# Altium footprint library PcblibPH.PcbLib: 18 footprints (part 1 of 2)
Each footprint in its own frame and in the unit in brackets; x right, y up, seen from the top. Pads: shape width x height; smd on the part's side, far side on the other; paste and mask are expansions set on the pad; w line width, h text height; cw(c..) or ccw(c..) is an arc to the next point about the centre after c.
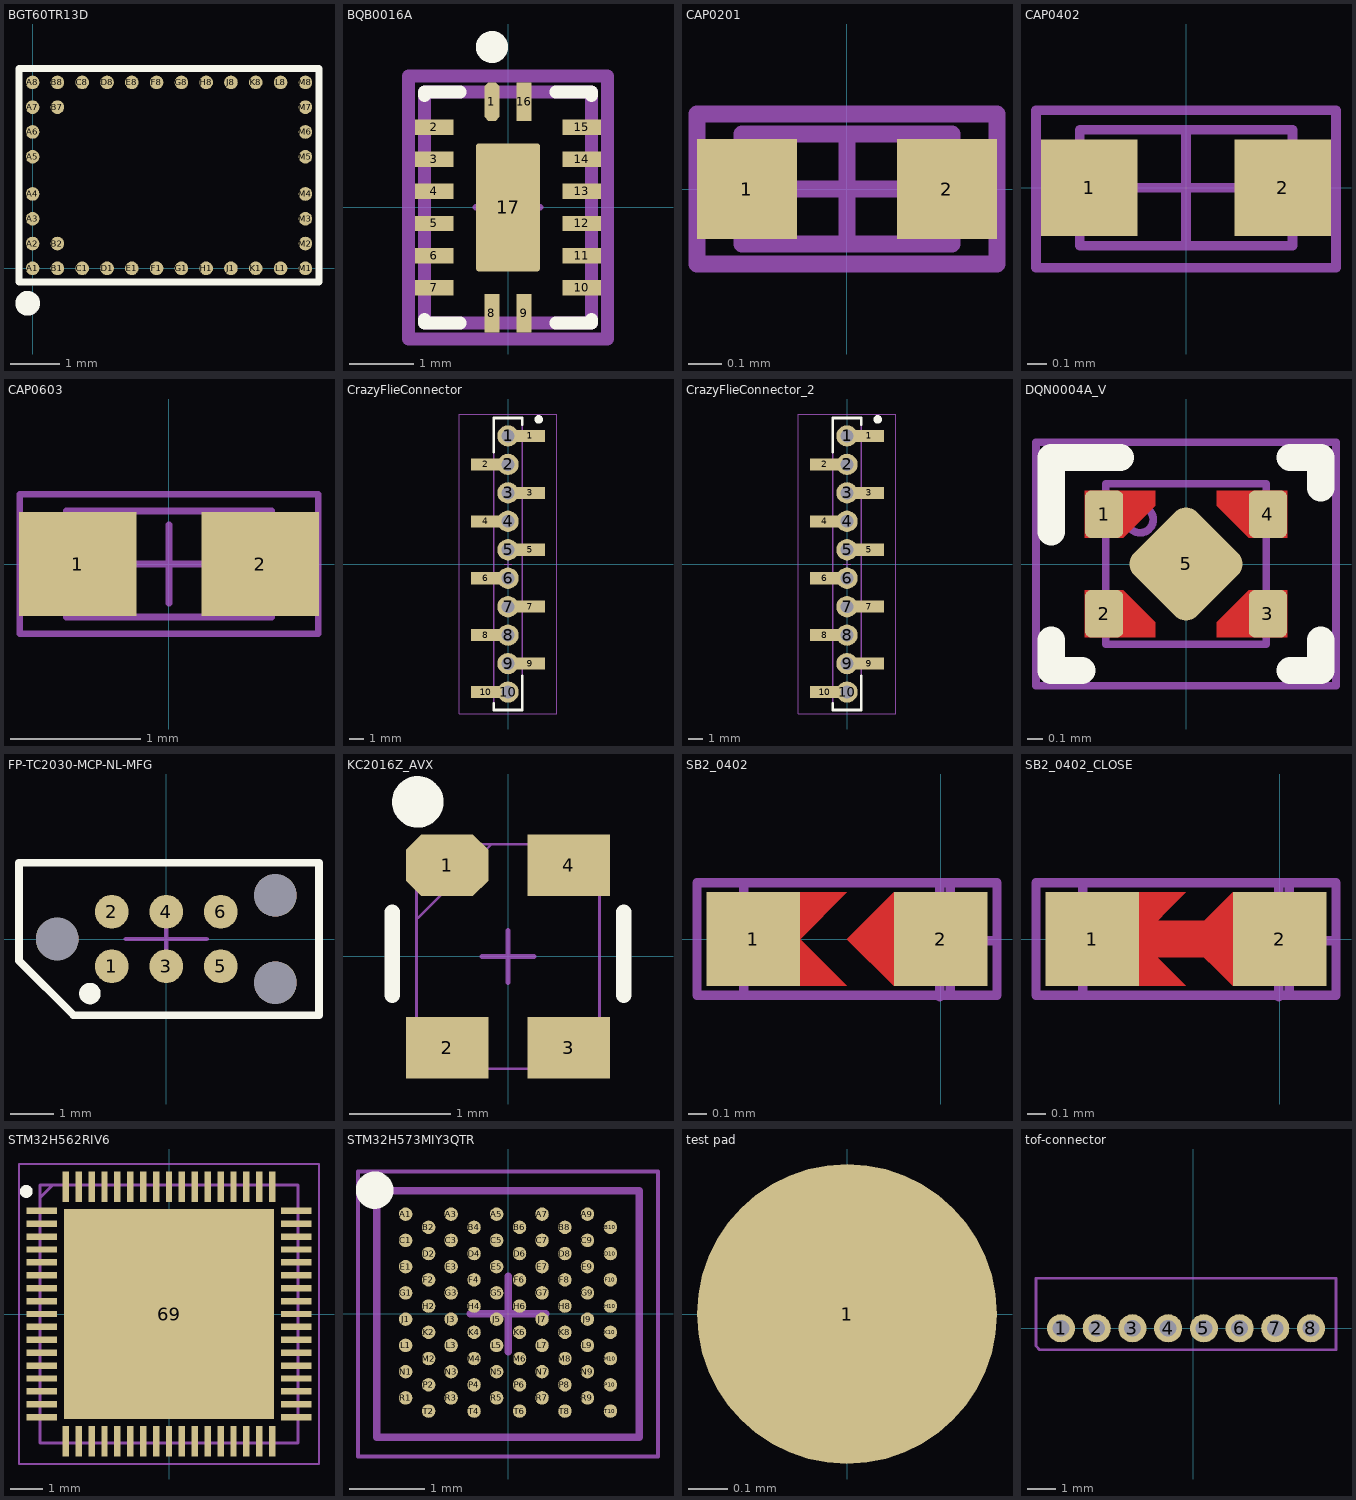
[diagram p0: the footprints below, top view; thin cyan lines are the x and y axes]

## BGT60TR13D [mm] "20190318"
height 0.8
pads (38):
  round 0.275 smd: A1(0,0) A2(0,0.5) A3(0,1) A4(0,1.5) A5(0,2.25) A6(0,2.75) A7(0,3.25) A8(0,3.75) B1(0.5,0) B2(0.5,0.5) B7(0.5,3.25) B8(0.5,3.75) C1(1,0) C8(1,3.75) D1(1.5,0) D8(1.5,3.75) E1(2,0) E8(2,3.75) F1(2.5,0) F8(2.5,3.75) G1(3,0) G8(3,3.75) H1(3.5,0) H8(3.5,3.75) J1(4,0) J8(4,3.75) K1(4.5,0) K8(4.5,3.75) L1(5,0) L8(5,3.75) M1(5.5,0) M2(5.5,0.5) M3(5.5,1) M4(5.5,1.5) M5(5.5,2.25) M6(5.5,2.75) M7(5.5,3.25) M8(5.5,3.75)
Top Overlay:
  circle w0.25: c-0.1,-0.705 r0.125
  lines w0.15: -0.275,-0.275 5.775,-0.275 5.775,4.03 -0.275,4.03 -0.275,-0.275
3D body: height 0.8, standoff 0.1, extent -0.275,-0.275 5.775,4.025

## BQB0016A [mm]
pads (17):
  oct 0.24x0.6 smd paste+0 mask+0: 1(-0.25,1.65)
  rect 0.6x0.24 smd paste+0 mask+0: 2(-1.15,1.25) 3(-1.15,0.75) 4(-1.15,0.25) 5(-1.15,-0.25) 6(-1.15,-0.75) 7(-1.15,-1.25) 10(1.15,-1.25) 11(1.15,-0.75) 12(1.15,-0.25) 13(1.15,0.25) 14(1.15,0.75) 15(1.15,1.25)
  rect 0.24x0.6 smd paste+0 mask+0: 8(-0.25,-1.65) 9(0.25,-1.65) 16(0.25,1.65)
  rrect10% 1x2 smd paste-1000 mask+0: 17(0,0)
Top Overlay:
  circle w0.25: c-0.25,2.5 r0.125
  lines w0.2: -1.3,-1.745 -1.3,-1.8 -0.745,-1.8 ; -1.3,1.745 -1.3,1.8 -0.745,1.8 ; 0.745,-1.8 1.3,-1.8 1.3,-1.745 ; 0.745,1.8 1.3,1.8 1.3,1.745
Top Paste:
  region: -0.475,0.845 -0.475,0.855 -0.467,0.873 -0.453,0.887 -0.435,0.895 -0.425,0.895 0.425,0.895 0.435,0.895 0.453,0.887 0.467,0.873 0.475,0.855 0.475,0.845 0.475,-0.845 0.475,-0.855 0.467,-0.873 0.453,-0.887 0.435,-0.895 0.425,-0.895 -0.425,-0.895 -0.435,-0.895 -0.453,-0.887 -0.467,-0.873 -0.475,-0.855 -0.475,-0.845
Top Courtyard:
  lines w0.2: -1.55,-2.05 1.55,-2.05 1.55,2.05 -1.55,2.05 -1.55,-2.05
Top Component Center:
  lines w0.1: -0.5,0 0.5,0 ; 0,-0.5 0,0.5
Top 3D Body:
  lines w0.2: -1.3,-1.8 1.3,-1.8 1.3,1.8 -1.3,1.8 -1.3,-1.8
Top Assembly:
  lines w0.2: -1.55,-2.05 1.55,-2.05 1.55,2.05 -1.55,2.05 -1.55,-2.05
3D body "IC_Texas_Instruments_SN74AXC4T774BQB_eec.STEP": height 0.25, standoff 0, extent -1.55,-2.05 1.55,2.05

## CAP0201 [mm] "Chip Capacitor, 2-Leads, Body 0.60x0.30mm, IPC High Density"
height 0.39
pads (2):
  rect 0.3x0.3 smd: 1(-0.3,0) 2(0.3,0)
Top Courtyard:
  lines w0.05: -0.45,-0.225 -0.45,0.225 0.45,0.225 0.45,-0.225 -0.45,-0.225
Top Assembly:
  lines w0.05: -0.165,0 0.165,0 ; 0,-0.165 0,0.165 ; -0.315,-0.165 -0.315,0.165 0.315,0.165 0.315,-0.165 -0.315,-0.165
3D body "CAPC0603X04L.step": height 0.39, standoff 0, extent -0.315,-0.165 0.315,0.165

## CAP0402 [mm] "Chip Capacitor, Body 1.0x0.5mm, Height 0.7mm, IPC High Density"
height 0.7
pads (2):
  rect 0.5x0.5 smd: 1(-0.5,0) 2(0.5,0)
Top Courtyard:
  lines w0.05: -0.775,-0.413 0.775,-0.413 0.775,0.4 -0.775,0.4 -0.775,-0.413
Top Assembly:
  lines w0.05: -0.3,0 0.3,0 ; 0,-0.3 0,0.3 ; -0.55,-0.3 -0.55,0.3 0.55,0.3 0.55,-0.3 -0.55,-0.3
3D body "C_0402.STEP": height 0.52, standoff 0.01, extent -0.508,-0.254 0.508,0.254

## CAP0603 [mm]
pads (2):
  rect 0.9x0.8 smd: 1(-0.7,0) 2(0.7,0)
Top Courtyard:
  lines w0.05: -1.144,-0.533 -1.144,0.533 1.143,0.533 1.143,-0.533 -1.144,-0.533
Top Assembly:
  lines w0.05: -0.305,0 0.295,0 ; 0,-0.3 0,0.3 ; -0.787,-0.406 0.787,-0.406 0.787,0.406 -0.787,0.406 -0.787,-0.406
3D body "C_0603.STEP": height 0.81, standoff 0.01, extent -0.8,-0.4 0.8,0.4

## CrazyFlieConnector [mm]
height 10
pads (20):
  round 1.5 hole 0.9: 1(0,9) 2(0,7) 3(0,5) 4(0,3) 5(0,1) 6(0,-1) 7(0,-3) 8(0,-5) 9(0,-7) 10(0,-9)
  rect 2.1x0.85 smd: 1(1.55,9) 2(-1.55,7) 3(1.55,5) 4(-1.55,3) 5(1.55,1) 6(-1.55,-1) 7(1.55,-3) 8(-1.55,-5) 9(1.55,-7) 10(-1.55,-9)
Top Overlay:
  circle w0.3: c2.159,10.16 r0.15
  lines w0.2: -1,-9.8 -1,-10.25 1,-10.25 1,-7.874 ; -1,7.874 -1,10.25 1,10.25 1,9.8
Top Courtyard:
  lines w0.05: -0.254,0 0.254,0 ; 0,-0.254 0,0.254 ; -3.429,-10.541 -3.429,10.541 3.429,10.541 3.429,-10.541 -3.429,-10.541
Mechanical 12:
  lines w0.1: -1,-10.25 1,-10.25 1,10.25 -1,10.25 -1,-10.25

## CrazyFlieConnector_2 [mm]
height 10
pads (20):
  round 1.5 hole 0.9: 1(0,9) 2(0,7) 3(0,5) 4(0,3) 5(0,1) 6(0,-1) 7(0,-3) 8(0,-5) 9(0,-7) 10(0,-9)
  rect 2.1x0.85 smd: 1(1.55,9) 2(-1.55,7) 3(1.55,5) 4(-1.55,3) 5(1.55,1) 6(-1.55,-1) 7(1.55,-3) 8(-1.55,-5) 9(1.55,-7) 10(-1.55,-9)
Top Overlay:
  circle w0.3: c2.159,10.16 r0.15
  lines w0.2: -1,-9.8 -1,-10.25 1,-10.25 1,-7.874 ; -1,7.874 -1,10.25 1,10.25 1,9.8
Top Courtyard:
  lines w0.05: -0.254,0 0.254,0 ; 0,-0.254 0,0.254 ; -3.429,-10.541 -3.429,10.541 3.429,10.541 3.429,-10.541 -3.429,-10.541
Mechanical 12:
  lines w0.1: -1,-10.25 1,-10.25 1,10.25 -1,10.25 -1,-10.25
3D body "1X10_2MM_SMD.SLDPRT": height 5.09, standoff 0.06, extent -1.842,-10.34 1.918,10.16

## DQN0004A_V [mm] "SON, Body 1.05x1.05mm, Pitch 0.65mm"
height 0.4
pads (5):
  rrect32% 0.25x0.31 smd paste-1 mask-0.31: 1(-0.535,0.325) 2(-0.535,-0.325) 3(0.535,-0.325) 4(0.535,0.325)
  rrect34% 0.58x0.58 smd rot 45 paste-0.065 mask-0.05: 5(0,0)
Top Layer:
  region: -0.66,0.48 -0.2,0.48 -0.2,0.379 -0.409,0.17 -0.66,0.17
  region: 0.66,0.48 0.2,0.48 0.2,0.379 0.409,0.17 0.66,0.17
  region: 0.66,-0.48 0.2,-0.48 0.2,-0.379 0.409,-0.17 0.66,-0.17
  region: -0.66,-0.48 -0.2,-0.48 -0.2,-0.379 -0.409,-0.17 -0.66,-0.17
Top Overlay:
  lines w0.178: -0.88,-0.496 -0.88,-0.696 -0.68,-0.696 ; -0.88,0.21 -0.88,0.696 -0.43,0.696 ; 0.68,-0.696 0.88,-0.696 0.88,-0.496 ; 0.68,0.696 0.88,0.696 0.88,0.496
Top Paste:
  region: -0.65,-0.43 -0.25,-0.43 -0.25,-0.4 -0.43,-0.22 -0.65,-0.22
  region: 0.65,-0.43 0.25,-0.43 0.25,-0.4 0.43,-0.22 0.65,-0.22
  region: 0.65,0.43 0.25,0.43 0.25,0.4 0.43,0.22 0.65,0.22
  region: -0.65,0.43 -0.25,0.43 -0.25,0.4 -0.43,0.22 -0.65,0.22
Mechanical 1:
  text ".Designator" at -0.43,-0.14 h0.2
Top 3D Body:
  circle w0.05: c-0.3,0.29 r0.086
  lines w0.05: -0.525,-0.525 -0.525,0.525 0.525,0.525 0.525,-0.525 -0.525,-0.525
Mechanical 15:
  lines w0.05: -0.98,-0.796 -0.98,0.796 0.98,0.796 0.98,-0.796 -0.98,-0.796
  lines w0.1: -0.25,0 0.25,0 ; 0,-0.25 0,0.25
3D body: height 0.42, standoff 0.2, extent -0.386,0.204 -0.214,0.376
3D body: height 0.4, standoff 0, extent -0.525,-0.525 0.525,0.525

## FP-TC2030-MCP-NL-MFG [mil]
pads (9):
  round 30.98 smd paste-39370.1 mask+0: 1(-50,-25) 2(-50,25) 3(0,-25) 4(0,25) 5(50,-25) 6(50,25)
  round 39.02 hole 39.02 unplated paste-99999 mask+0: ""(-100,0) ""(100,-40) ""(100,40)
Top Overlay:
  circle w9.84: c-70,-50 r4.92
  lines w7: -135,-20 -85,-70 140,-70 140,70 -135,70 -135,-20
Top Component Center:
  lines w3.94: -37.18,0 37.18,0 ; 0,-37.18 0,37.18

## KC2016Z_AVX [mm]
height 0.8
pads (4):
  oct 0.813x0.61 smd paste-0.305 mask+0: 1(-0.6,0.9)
  rect 0.813x0.61 smd paste-0.305 mask+0: 2(-0.6,-0.9) 3(0.6,-0.9) 4(0.6,0.9)
Top Overlay:
  circle w0.254: c-0.889,1.524 r0.127
  lines w0.152: -1.143,-0.381 -1.143,0.439 ; 1.143,-0.381 1.143,0.439
Top Assembly:
  lines w0.025: -0.889,0.381 -0.165,1.105 ; -0.902,-1.105 -0.902,1.105 0.902,1.105 0.902,-1.105 -0.902,-1.105
  lines w0.05: -0.254,0 0.254,0 ; 0,-0.254 0,0.254
3D body "KC2016Z_AVX.step": height 0.81, standoff 0, extent -1.006,-1.156 1.006,1.156

## SB2_0402 [mm]
pads (2):
  rect 0.5x0.5 smd: 1(-1,0) 2(0,0)
Top Layer:
  region: -0.75,0 -0.5,0.25 -0.775,0.25 -0.775,-0.25 -0.5,-0.25
  region: -0.25,-0.25 -0.5,0 -0.25,0.25
Top Solder:
  region: -0.325,-0.35 -0.675,-0.35 -0.675,0.35 -0.325,0.35
Top Courtyard:
  lines w0.05: -1.3,-0.3 0.3,-0.3 0.3,0.3 -1.3,0.3 -1.3,-0.3
Top Assembly:
  lines w0.05: -0.305,-0.008 0.295,-0.008 ; -0.005,-0.308 -0.005,0.292 ; -1.05,-0.3 -1.05,0.3 0.05,0.3 0.05,-0.3 -1.05,-0.3
3D body "Resistor_0402.step": height 0.36, standoff 0.01, extent -1.033,-0.254 -0.017,0.254

## SB2_0402_CLOSE [mm]
pads (2):
  rect 0.5x0.5 smd: 1(-1,0) 2(0,0)
Top Layer:
  rectangle: -0.8,-0.1 -0.3,0.1
  region: -0.25,-0.25 -0.5,0 -0.25,0.25
  region: -0.75,0 -0.5,0.25 -0.775,0.25 -0.775,-0.25 -0.5,-0.25
Top Solder:
  region: -0.325,-0.35 -0.675,-0.35 -0.675,0.35 -0.325,0.35
Top Courtyard:
  lines w0.05: -1.3,-0.3 -1.3,0.3 0.3,0.3 0.3,-0.3 -1.3,-0.3
Top Assembly:
  lines w0.05: -0.305,-0.008 0.295,-0.008 ; -0.005,-0.308 -0.005,0.292 ; -1.05,-0.3 0.05,-0.3 0.05,0.3 -1.05,0.3 -1.05,-0.3

## STM32H562RIV6 [mm]
height 0.9
pads (69):
  rect 0.95x0.2 smd: 1(-3.95,3.2) 2(-3.95,2.8) 3(-3.95,2.4) 4(-3.95,2) 5(-3.95,1.6) 6(-3.95,1.2) 7(-3.95,0.8) 8(-3.95,0.4) 9(-3.95,0) 10(-3.95,-0.4) 11(-3.95,-0.8) 12(-3.95,-1.2) 13(-3.95,-1.6) 14(-3.95,-2) 15(-3.95,-2.4) 16(-3.95,-2.8) 17(-3.95,-3.2) 35(3.95,-3.2) 36(3.95,-2.8) 37(3.95,-2.4) 38(3.95,-2) 39(3.95,-1.6) 40(3.95,-1.2) 41(3.95,-0.8) 42(3.95,-0.4) 43(3.95,0) 44(3.95,0.4) 45(3.95,0.8) 46(3.95,1.2) 47(3.95,1.6) 48(3.95,2) 49(3.95,2.4) 50(3.95,2.8) 51(3.95,3.2)
  rect 0.2x0.95 smd: 18(-3.2,-3.95) 19(-2.8,-3.95) 20(-2.4,-3.95) 21(-2,-3.95) 22(-1.6,-3.95) 23(-1.2,-3.95) 24(-0.8,-3.95) 25(-0.4,-3.95) 26(0,-3.95) 27(0.4,-3.95) 28(0.8,-3.95) 29(1.2,-3.95) 30(1.6,-3.95) 31(2,-3.95) 32(2.4,-3.95) 33(2.8,-3.95) 34(3.2,-3.95) 52(3.2,3.95) 53(2.8,3.95) 54(2.4,3.95) 55(2,3.95) 56(1.6,3.95) 57(1.2,3.95) 58(0.8,3.95) 59(0.4,3.95) 60(0,3.95) 61(-0.4,3.95) 62(-0.8,3.95) 63(-1.2,3.95) 64(-1.6,3.95) 65(-2,3.95) 66(-2.4,3.95) 67(-2.8,3.95) 68(-3.2,3.95)
  rect 6.5x6.5 smd: 69(0,0)
Top Overlay:
  circle w0.2: c-4.425,3.8 r0.1
Mechanical 15:
  lines w0.1: -4,3.6 -3.6,4 ; -4,-4 4,-4 4,4 -4,4 -4,-4
Mechanical 20:
  lines w0.05: -4.65,-4.65 4.65,-4.65 4.65,4.65 -4.65,4.65 -4.65,-4.65
3D body "STM32H562RIV6.stp": height 1, standoff 0, extent -4.05,-4.05 4.05,4.05

## STM32H573MIY3QTR [mm]
height 0.38
pads (80):
  round 0.18 smd: A1(-1.365,1.331) A3(-0.759,1.331) A5(-0.153,1.331) A7(0.454,1.331) A9(1.06,1.331) B2(-1.059,1.156) B4(-0.453,1.156) B6(0.154,1.156) B8(0.76,1.156) B10(1.366,1.156) C1(-1.365,0.981) C3(-0.759,0.981) C5(-0.153,0.981) C7(0.454,0.981) C9(1.06,0.981) D2(-1.059,0.806) D4(-0.453,0.806) D6(0.154,0.806) D8(0.76,0.806) D10(1.366,0.806) E1(-1.365,0.631) E3(-0.759,0.631) E5(-0.153,0.631) E7(0.454,0.631) E9(1.06,0.631) F2(-1.059,0.456) F4(-0.453,0.456) F6(0.154,0.456) F8(0.76,0.456) F10(1.366,0.456) G1(-1.365,0.281) G3(-0.759,0.281) G5(-0.153,0.281) G7(0.454,0.281) G9(1.06,0.281) H2(-1.059,0.106) H4(-0.453,0.106) H6(0.154,0.106) H8(0.76,0.106) H10(1.366,0.106) J1(-1.365,-0.069) J3(-0.759,-0.069) J5(-0.153,-0.069) J7(0.454,-0.069) J9(1.06,-0.069) K2(-1.059,-0.244) K4(-0.453,-0.244) K6(0.154,-0.244) K8(0.76,-0.244) K10(1.366,-0.244) L1(-1.365,-0.419) L3(-0.759,-0.419) L5(-0.153,-0.419) L7(0.454,-0.419) L9(1.06,-0.419) M2(-1.059,-0.594) M4(-0.453,-0.594) M6(0.154,-0.594) M8(0.76,-0.594) M10(1.366,-0.594) N1(-1.365,-0.769) N3(-0.759,-0.769) N5(-0.153,-0.769) N7(0.454,-0.769) N9(1.06,-0.769) P2(-1.059,-0.944) P4(-0.453,-0.944) P6(0.154,-0.944) P8(0.76,-0.944) P10(1.366,-0.944) R1(-1.365,-1.119) R3(-0.759,-1.119) R5(-0.153,-1.119) R7(0.454,-1.119) R9(1.06,-1.119) T2(-1.059,-1.294) T4(-0.453,-1.294) T6(0.154,-1.294) T8(0.76,-1.294) T10(1.366,-1.294)
Top Overlay:
  circle w0.25: c-1.778,1.651 r0.125
Top Courtyard:
  lines w0.05: -2,-1.9 2,-1.9 2,1.9 -2,1.9 -2,-1.9
  lines w0.1: -0.5,0 0.5,0 ; 0,-0.5 0,0.5
Top 3D Body:
  lines w0.1: -1.75,-1.64 1.75,-1.64 1.75,1.64 -1.75,1.64 -1.75,-1.64
3D body: height 0.53, standoff 0.17, extent -1.75,-1.64 1.75,1.64

## test pad [mil] "Signal testing pad"
pads (1):
  round 30 smd: 1(0,0)

## tof-connector [mm]
height 0.1
pads (8):
  round 1 hole 0.6: 1(-4.699,0) 2(-3.429,0) 3(-2.159,0) 4(-0.889,0) 5(0.381,0) 6(1.651,0) 7(2.921,0) 8(4.191,0)
Mechanical 1:
  lines w0.1: -5.588,-0.635 -5.588,1.778 5.08,1.778 5.08,-0.762 -5.461,-0.762 -5.588,-0.635